# Altium footprint library Button_Switch_SMD.PcbLib: 169 footprints (part 3 of 12)
Each footprint in its own frame and in the unit in brackets; x right, y up, seen from the top. Pads: shape width x height; smd on the part's side, far side on the other; paste and mask are expansions set on the pad; w line width, h text height; cw(c..) or ccw(c..) is an arc to the next point about the centre after c.
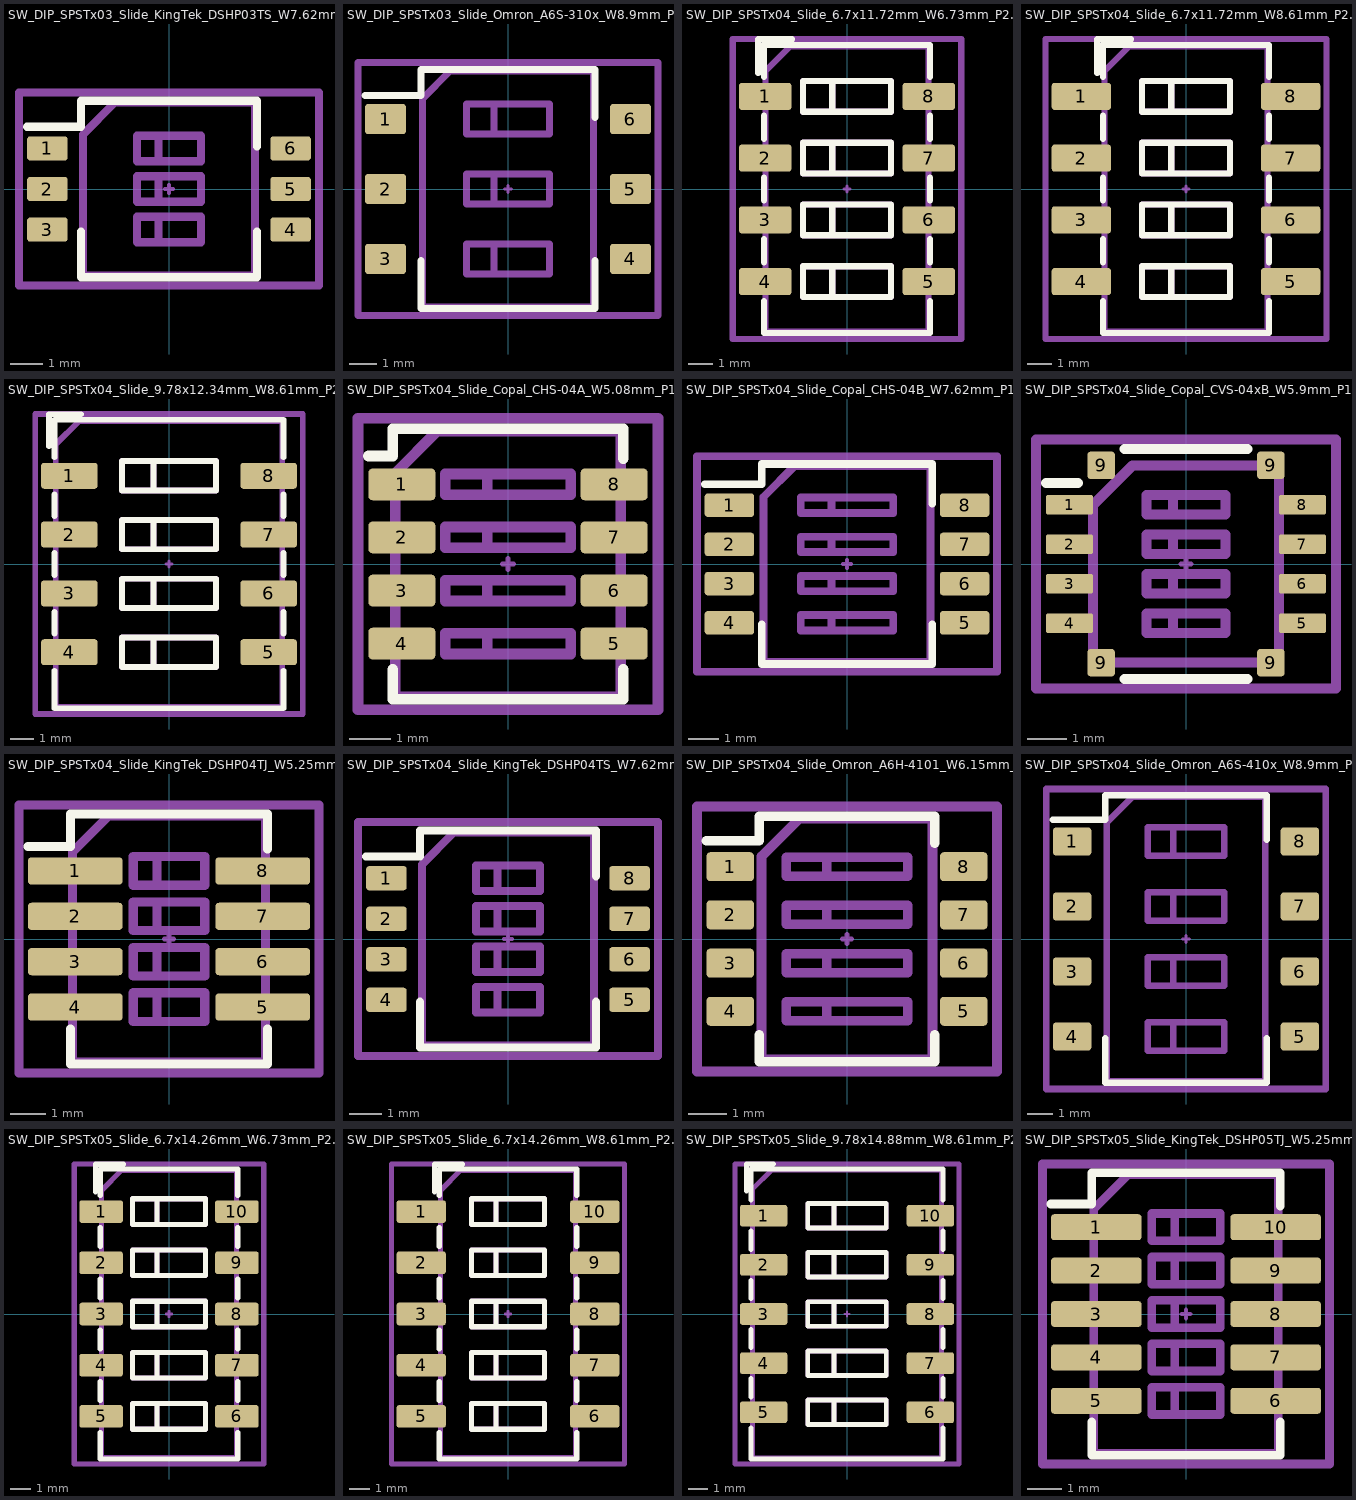
[diagram p2: the footprints below, top view; thin cyan lines are the x and y axes]

## SW_DIP_SPSTx03_Slide_KingTek_DSHP03TS_W7.62mm_P1.27mm [mm] "SW_DIP_SPSTx03_Slide_KingTek_DSHP03TS_W7.62mm_P1.27mm"
pads (6):
  rrect25% 1.27x0.76 smd: 1(-3.81,1.27) 2(-3.81,0) 3(-3.81,-1.27) 4(3.81,-1.27) 5(3.81,0) 6(3.81,1.27)
F.SilkS:
  lines w0.254: -4.445,1.95 -2.76,1.95 -2.76,2.765 2.76,2.765 2.76,1.33 ; -2.76,-1.33 -2.76,-2.765 2.76,-2.765 2.76,-1.33
Top Component Center:
  lines w0.127: -0.127,0 0.127,0 ; 0,-0.127 0,0.127
Top Assembly:
  lines w0.254: -1,-1.67 -1,-0.87 ; -1,-1.67 -0.333,-1.67 ; -1,-1.67 -1,-0.87 ; -1,-1.67 1,-1.67 1,-0.87 -1,-0.87 ; -1,-0.87 -0.333,-0.87 ; -1,-0.4 -1,0.4 ; -1,-0.4 -0.333,-0.4 ; -1,-0.4 -1,0.4 ; -1,-0.4 1,-0.4 1,0.4 -1,0.4 ; -1,0.4 -0.333,0.4 ; -1,0.87 -1,1.67 ; -1,0.87 -0.333,0.87 ; -1,0.87 -1,1.67 ; -1,0.87 1,0.87 1,1.67 -1,1.67 ; -1,1.67 -0.333,1.67 ; -0.333,-1.67 -0.333,-0.87 ; -0.333,-1.67 -0.333,-0.87 ; -0.333,-0.4 -0.333,0.4 ; -0.333,-0.4 -0.333,0.4 ; -0.333,0.87 -0.333,1.67 ; -0.333,0.87 -0.333,1.67 ; -2.7,-2.705 -2.7,1.705 -1.7,2.705 2.7,2.705 2.7,-2.705 -2.7,-2.705
  text "on" at -0.72,1.801 h0.8
Top Courtyard:
  lines w0.254: -4.7,-3.02 -4.7,3.02 4.7,3.02 4.7,-3.02 -4.7,-3.02
Top Designator:
  text ".Designator" at -3.432,-0.345 h1.52
3D body "SW_DIP_SPSTx03_Slide_KingTek_DSHP03TS_W7.62mm_P1.27mm.step": height 2.45, standoff 0.08, extent -4.175,-2.705 4.175,2.705

## SW_DIP_SPSTx03_Slide_Omron_A6S-310x_W8.9mm_P2.54mm [mm] "SW_DIP_SPSTx03_Slide_Omron_A6S-310x_W8.9mm_P2.54mm"
pads (6):
  rrect23% 1.5x1.1 smd: 1(-4.45,2.54) 2(-4.45,0) 3(-4.45,-2.54) 4(4.45,-2.54) 5(4.45,0) 6(4.45,2.54)
F.SilkS:
  lines w0.254: -5.2,3.39 -3.16,3.39 -3.16,4.34 3.16,4.34 3.16,2.6 ; -3.16,-2.6 -3.16,-4.34 3.16,-4.34 3.16,-2.6
Top Component Center:
  lines w0.127: -0.127,0 0.127,0 ; 0,-0.127 0,0.127
Top Assembly:
  lines w0.254: -1.5,-3.09 -1.5,-1.99 ; -1.5,-3.09 -0.5,-3.09 ; -1.5,-3.09 -1.5,-1.99 ; -1.5,-3.09 1.5,-3.09 1.5,-1.99 -1.5,-1.99 ; -1.5,-1.99 -0.5,-1.99 ; -1.5,-0.55 -1.5,0.55 ; -1.5,-0.55 -0.5,-0.55 ; -1.5,-0.55 -1.5,0.55 ; -1.5,-0.55 1.5,-0.55 1.5,0.55 -1.5,0.55 ; -1.5,0.55 -0.5,0.55 ; -1.5,1.99 -1.5,3.09 ; -1.5,1.99 -0.5,1.99 ; -1.5,1.99 -1.5,3.09 ; -1.5,1.99 1.5,1.99 1.5,3.09 -1.5,3.09 ; -1.5,3.09 -0.5,3.09 ; -0.5,-3.09 -0.5,-1.99 ; -0.5,-3.09 -0.5,-1.99 ; -0.5,-0.55 -0.5,0.55 ; -0.5,-0.55 -0.5,0.55 ; -0.5,1.99 -0.5,3.09 ; -0.5,1.99 -0.5,3.09 ; -3.1,-4.28 -3.1,3.28 -2.1,4.28 3.1,4.28 3.1,-4.28 -3.1,-4.28
  text "on" at -0.59,3.298 h0.8
Top Courtyard:
  lines w0.254: -5.45,-4.59 -5.45,4.59 5.45,4.59 5.45,-4.59 -5.45,-4.59
Top Designator:
  text ".Designator" at -3.432,-0.345 h1.52
3D body "SW_DIP_SPSTx03_Slide_Omron_A6S-310x_W8.9mm_P2.54mm.step": height 3.1, standoff 0.03, extent -4.9,-4.28 4.9,4.28

## SW_DIP_SPSTx04_Slide_6.7x11.72mm_W6.73mm_P2.54mm_LowProfile_JPin [mm] "SW_DIP_SPSTx04_Slide_6.7x11.72mm_W6.73mm_P2.54mm_LowProfile_JPin"
pads (8):
  rrect22% 2.16x1.12 smd: 1(-3.365,3.81) 2(-3.365,1.27) 3(-3.365,-1.27) 4(-3.365,-3.81) 5(3.365,-3.81) 6(3.365,-1.27) 7(3.365,1.27) 8(3.365,3.81)
F.SilkS:
  lines w0.254: -3.65,4.777 -3.65,6.16 -2.267,6.16 ; -3.41,-4.61 -3.41,-5.92 3.41,-5.92 3.41,-4.61 ; -3.41,-3.01 -3.41,-2.07 ; -3.41,-0.47 -3.41,0.47 ; -3.41,2.07 -3.41,3.01 ; -3.41,4.61 -3.41,5.92 3.41,5.92 3.41,4.61 ; 3.41,-3.01 3.41,-2.07 ; 3.41,-0.47 3.41,0.47 ; 3.41,2.07 3.41,3.01 ; -1.81,-4.445 1.81,-4.445 1.81,-3.175 -1.81,-3.175 ; -1.81,-4.445 -1.81,-3.175 ; -1.81,-4.445 -0.603,-4.445 ; -1.81,-4.445 -1.81,-3.175 ; -1.81,-3.175 -0.603,-3.175 ; -1.81,-1.905 1.81,-1.905 1.81,-0.635 -1.81,-0.635 ; -1.81,-1.905 -1.81,-0.635 ; -1.81,-1.905 -0.603,-1.905 ; -1.81,-1.905 -1.81,-0.635 ; -1.81,-0.635 -0.603,-0.635 ; -1.81,0.635 1.81,0.635 1.81,1.905 -1.81,1.905 ; -1.81,0.635 -1.81,1.905 ; -1.81,0.635 -0.603,0.635 ; -1.81,0.635 -1.81,1.905 ; -1.81,1.905 -0.603,1.905 ; -1.81,3.175 1.81,3.175 1.81,4.445 -1.81,4.445 ; -1.81,3.175 -1.81,4.445 ; -1.81,3.175 -0.603,3.175 ; -1.81,3.175 -1.81,4.445 ; -1.81,4.445 -0.603,4.445 ; -0.603,-4.445 -0.603,-3.175 ; -0.603,-4.445 -0.603,-3.175 ; -0.603,-1.905 -0.603,-0.635 ; -0.603,-1.905 -0.603,-0.635 ; -0.603,0.635 -0.603,1.905 ; -0.603,0.635 -0.603,1.905 ; -0.603,3.175 -0.603,4.445 ; -0.603,3.175 -0.603,4.445
Top Component Center:
  lines w0.127: -0.127,0 0.127,0 ; 0,-0.127 0,0.127
Top Assembly:
  lines w0.254: -1.81,-4.445 1.81,-4.445 1.81,-3.175 -1.81,-3.175 ; -1.81,-4.445 -1.81,-3.175 ; -1.81,-4.445 -0.603,-4.445 ; -1.81,-4.445 -1.81,-3.175 ; -1.81,-3.175 -0.603,-3.175 ; -1.81,-1.905 1.81,-1.905 1.81,-0.635 -1.81,-0.635 ; -1.81,-1.905 -1.81,-0.635 ; -1.81,-1.905 -0.603,-1.905 ; -1.81,-1.905 -1.81,-0.635 ; -1.81,-0.635 -0.603,-0.635 ; -1.81,0.635 1.81,0.635 1.81,1.905 -1.81,1.905 ; -1.81,0.635 -1.81,1.905 ; -1.81,0.635 -0.603,0.635 ; -1.81,0.635 -1.81,1.905 ; -1.81,1.905 -0.603,1.905 ; -1.81,3.175 1.81,3.175 1.81,4.445 -1.81,4.445 ; -1.81,3.175 -1.81,4.445 ; -1.81,3.175 -0.603,3.175 ; -1.81,3.175 -1.81,4.445 ; -1.81,4.445 -0.603,4.445 ; -0.603,-4.445 -0.603,-3.175 ; -0.603,-4.445 -0.603,-3.175 ; -0.603,-1.905 -0.603,-0.635 ; -0.603,-1.905 -0.603,-0.635 ; -0.603,0.635 -0.603,1.905 ; -0.603,0.635 -0.603,1.905 ; -0.603,3.175 -0.603,4.445 ; -0.603,3.175 -0.603,4.445 ; -3.35,-5.86 3.35,-5.86 3.35,5.86 -2.35,5.86 -3.35,4.86 -3.35,-5.86
  text "on" at 0.233,4.766 h0.8
Top Courtyard:
  lines w0.254: -4.7,-6.17 4.7,-6.17 4.7,6.17 -4.7,6.17 -4.7,-6.17
Top Designator:
  text ".Designator" at -3.432,-0.345 h1.52
3D body "SW_DIP_SPSTx04_Slide_6.7x11.72mm_W6.73mm_P2.54mm_LowProfile_JPin.step": height 3.2, standoff -0.1, extent -3.45,-5.86 3.45,5.86

## SW_DIP_SPSTx04_Slide_6.7x11.72mm_W8.61mm_P2.54mm_LowProfile [mm] "SW_DIP_SPSTx04_Slide_6.7x11.72mm_W8.61mm_P2.54mm_LowProfile"
pads (8):
  rrect22% 2.44x1.12 smd: 1(-4.305,3.81) 2(-4.305,1.27) 3(-4.305,-1.27) 4(-4.305,-3.81) 5(4.305,-3.81) 6(4.305,-1.27) 7(4.305,1.27) 8(4.305,3.81)
F.SilkS:
  lines w0.254: -3.65,4.777 -3.65,6.16 -2.267,6.16 ; -3.41,-4.61 -3.41,-5.92 3.41,-5.92 3.41,-4.61 ; -3.41,-3.01 -3.41,-2.07 ; -3.41,-0.47 -3.41,0.47 ; -3.41,2.07 -3.41,3.01 ; -3.41,4.61 -3.41,5.92 3.41,5.92 3.41,4.61 ; 3.41,-3.01 3.41,-2.07 ; 3.41,-0.47 3.41,0.47 ; 3.41,2.07 3.41,3.01 ; -1.81,-4.445 -1.81,-3.175 ; -1.81,-4.445 -0.603,-4.445 ; -1.81,-4.445 -1.81,-3.175 ; -1.81,-4.445 1.81,-4.445 1.81,-3.175 -1.81,-3.175 ; -1.81,-3.175 -0.603,-3.175 ; -1.81,-1.905 -1.81,-0.635 ; -1.81,-1.905 -0.603,-1.905 ; -1.81,-1.905 -1.81,-0.635 ; -1.81,-1.905 1.81,-1.905 1.81,-0.635 -1.81,-0.635 ; -1.81,-0.635 -0.603,-0.635 ; -1.81,0.635 -1.81,1.905 ; -1.81,0.635 -0.603,0.635 ; -1.81,0.635 -1.81,1.905 ; -1.81,0.635 1.81,0.635 1.81,1.905 -1.81,1.905 ; -1.81,1.905 -0.603,1.905 ; -1.81,3.175 -1.81,4.445 ; -1.81,3.175 -0.603,3.175 ; -1.81,3.175 -1.81,4.445 ; -1.81,3.175 1.81,3.175 1.81,4.445 -1.81,4.445 ; -1.81,4.445 -0.603,4.445 ; -0.603,-4.445 -0.603,-3.175 ; -0.603,-4.445 -0.603,-3.175 ; -0.603,-1.905 -0.603,-0.635 ; -0.603,-1.905 -0.603,-0.635 ; -0.603,0.635 -0.603,1.905 ; -0.603,0.635 -0.603,1.905 ; -0.603,3.175 -0.603,4.445 ; -0.603,3.175 -0.603,4.445
Top Component Center:
  lines w0.127: -0.127,0 0.127,0 ; 0,-0.127 0,0.127
Top Assembly:
  lines w0.254: -1.81,-4.445 -1.81,-3.175 ; -1.81,-4.445 -0.603,-4.445 ; -1.81,-4.445 -1.81,-3.175 ; -1.81,-4.445 1.81,-4.445 1.81,-3.175 -1.81,-3.175 ; -1.81,-3.175 -0.603,-3.175 ; -1.81,-1.905 -1.81,-0.635 ; -1.81,-1.905 -0.603,-1.905 ; -1.81,-1.905 -1.81,-0.635 ; -1.81,-1.905 1.81,-1.905 1.81,-0.635 -1.81,-0.635 ; -1.81,-0.635 -0.603,-0.635 ; -1.81,0.635 -1.81,1.905 ; -1.81,0.635 -0.603,0.635 ; -1.81,0.635 -1.81,1.905 ; -1.81,0.635 1.81,0.635 1.81,1.905 -1.81,1.905 ; -1.81,1.905 -0.603,1.905 ; -1.81,3.175 -1.81,4.445 ; -1.81,3.175 -0.603,3.175 ; -1.81,3.175 -1.81,4.445 ; -1.81,3.175 1.81,3.175 1.81,4.445 -1.81,4.445 ; -1.81,4.445 -0.603,4.445 ; -0.603,-4.445 -0.603,-3.175 ; -0.603,-4.445 -0.603,-3.175 ; -0.603,-1.905 -0.603,-0.635 ; -0.603,-1.905 -0.603,-0.635 ; -0.603,0.635 -0.603,1.905 ; -0.603,0.635 -0.603,1.905 ; -0.603,3.175 -0.603,4.445 ; -0.603,3.175 -0.603,4.445 ; -3.35,-5.86 -3.35,4.86 -2.35,5.86 3.35,5.86 3.35,-5.86 -3.35,-5.86
  text "on" at -0.237,4.766 h0.8
Top Courtyard:
  lines w0.254: -5.78,-6.17 -5.78,6.17 5.78,6.17 5.78,-6.17 -5.78,-6.17
Top Designator:
  text ".Designator" at -3.432,-0.345 h1.52
3D body "SW_DIP_SPSTx04_Slide_6.7x11.72mm_W8.61mm_P2.54mm_LowProfile.step": height 2.7, standoff 0, extent -4.305,-5.86 4.305,5.86

## SW_DIP_SPSTx04_Slide_9.78x12.34mm_W8.61mm_P2.54mm [mm] "SW_DIP_SPSTx04_Slide_9.78x12.34mm_W8.61mm_P2.54mm"
pads (8):
  rrect22% 2.44x1.12 smd: 1(-4.305,3.81) 2(-4.305,1.27) 3(-4.305,-1.27) 4(-4.305,-3.81) 5(4.305,-3.81) 6(4.305,-1.27) 7(4.305,1.27) 8(4.305,3.81)
F.SilkS:
  lines w0.254: -5.19,5.087 -5.19,6.47 -3.807,6.47 ; -4.95,-4.61 -4.95,-6.23 4.95,-6.23 4.95,-4.61 ; -4.95,-3.01 -4.95,-2.07 ; -4.95,-0.47 -4.95,0.47 ; -4.95,2.07 -4.95,3.01 ; -4.95,4.61 -4.95,6.23 4.95,6.23 4.95,4.61 ; 4.95,-3.01 4.95,-2.07 ; 4.95,-0.47 4.95,0.47 ; 4.95,2.07 4.95,3.01 ; -2.03,-4.445 2.03,-4.445 2.03,-3.175 -2.03,-3.175 ; -2.03,-4.445 -2.03,-3.175 ; -2.03,-4.445 -0.677,-4.445 ; -2.03,-4.445 -2.03,-3.175 ; -2.03,-3.175 -0.677,-3.175 ; -2.03,-1.905 2.03,-1.905 2.03,-0.635 -2.03,-0.635 ; -2.03,-1.905 -2.03,-0.635 ; -2.03,-1.905 -0.677,-1.905 ; -2.03,-1.905 -2.03,-0.635 ; -2.03,-0.635 -0.677,-0.635 ; -2.03,0.635 2.03,0.635 2.03,1.905 -2.03,1.905 ; -2.03,0.635 -2.03,1.905 ; -2.03,0.635 -0.677,0.635 ; -2.03,0.635 -2.03,1.905 ; -2.03,1.905 -0.677,1.905 ; -2.03,3.175 2.03,3.175 2.03,4.445 -2.03,4.445 ; -2.03,3.175 -2.03,4.445 ; -2.03,3.175 -0.677,3.175 ; -2.03,3.175 -2.03,4.445 ; -2.03,4.445 -0.677,4.445 ; -0.677,-4.445 -0.677,-3.175 ; -0.677,-4.445 -0.677,-3.175 ; -0.677,-1.905 -0.677,-0.635 ; -0.677,-1.905 -0.677,-0.635 ; -0.677,0.635 -0.677,1.905 ; -0.677,0.635 -0.677,1.905 ; -0.677,3.175 -0.677,4.445 ; -0.677,3.175 -0.677,4.445
Top Component Center:
  lines w0.127: -0.127,0 0.127,0 ; 0,-0.127 0,0.127
Top Assembly:
  lines w0.254: -2.03,-4.445 2.03,-4.445 2.03,-3.175 -2.03,-3.175 ; -2.03,-4.445 -2.03,-3.175 ; -2.03,-4.445 -0.677,-4.445 ; -2.03,-4.445 -2.03,-3.175 ; -2.03,-3.175 -0.677,-3.175 ; -2.03,-1.905 2.03,-1.905 2.03,-0.635 -2.03,-0.635 ; -2.03,-1.905 -2.03,-0.635 ; -2.03,-1.905 -0.677,-1.905 ; -2.03,-1.905 -2.03,-0.635 ; -2.03,-0.635 -0.677,-0.635 ; -2.03,0.635 2.03,0.635 2.03,1.905 -2.03,1.905 ; -2.03,0.635 -2.03,1.905 ; -2.03,0.635 -0.677,0.635 ; -2.03,0.635 -2.03,1.905 ; -2.03,1.905 -0.677,1.905 ; -2.03,3.175 2.03,3.175 2.03,4.445 -2.03,4.445 ; -2.03,3.175 -2.03,4.445 ; -2.03,3.175 -0.677,3.175 ; -2.03,3.175 -2.03,4.445 ; -2.03,4.445 -0.677,4.445 ; -0.677,-4.445 -0.677,-3.175 ; -0.677,-4.445 -0.677,-3.175 ; -0.677,-1.905 -0.677,-0.635 ; -0.677,-1.905 -0.677,-0.635 ; -0.677,0.635 -0.677,1.905 ; -0.677,0.635 -0.677,1.905 ; -0.677,3.175 -0.677,4.445 ; -0.677,3.175 -0.677,4.445 ; -4.89,-6.17 4.89,-6.17 4.89,6.17 -3.89,6.17 -4.89,5.17 -4.89,-6.17
  text "on" at 0.643,4.921 h0.8
Top Courtyard:
  lines w0.254: -5.78,-6.48 5.78,-6.48 5.78,6.48 -5.78,6.48 -5.78,-6.48
Top Designator:
  text ".Designator" at -3.432,-0.345 h1.52
3D body "SW_DIP_SPSTx04_Slide_9.78x12.34mm_W8.61mm_P2.54mm.step": height 8.6, standoff 0, extent -5.2,-6.17 5.2,6.17

## SW_DIP_SPSTx04_Slide_Copal_CHS-04A_W5.08mm_P1.27mm_JPin [mm] "SW_DIP_SPSTx04_Slide_Copal_CHS-04A_W5.08mm_P1.27mm_JPin"
pads (8):
  rrect25% 1.6x0.76 smd: 1(-2.54,1.905) 2(-2.54,0.635) 3(-2.54,-0.635) 4(-2.54,-1.905) 5(2.54,-1.905) 6(2.54,-0.635) 7(2.54,0.635) 8(2.54,1.905)
F.SilkS:
  lines w0.254: -3.34,2.585 -2.76,2.585 -2.76,3.235 2.76,3.235 2.76,2.525 ; -2.76,-2.525 -2.76,-3.235 2.76,-3.235 2.76,-2.525
Top Component Center:
  lines w0.127: -0.127,0 0.127,0 ; 0,-0.127 0,0.127
Top Assembly:
  lines w0.254: -1.5,-2.155 1.5,-2.155 1.5,-1.655 -1.5,-1.655 ; -1.5,-2.155 -1.5,-1.655 ; -1.5,-2.155 -0.5,-2.155 ; -1.5,-2.155 -1.5,-1.655 ; -1.5,-1.655 -0.5,-1.655 ; -1.5,-0.885 1.5,-0.885 1.5,-0.385 -1.5,-0.385 ; -1.5,-0.885 -1.5,-0.385 ; -1.5,-0.885 -0.5,-0.885 ; -1.5,-0.885 -1.5,-0.385 ; -1.5,-0.385 -0.5,-0.385 ; -1.5,0.385 1.5,0.385 1.5,0.885 -1.5,0.885 ; -1.5,0.385 -1.5,0.885 ; -1.5,0.385 -0.5,0.385 ; -1.5,0.385 -1.5,0.885 ; -1.5,0.885 -0.5,0.885 ; -1.5,1.655 1.5,1.655 1.5,2.155 -1.5,2.155 ; -1.5,1.655 -1.5,2.155 ; -1.5,1.655 -0.5,1.655 ; -1.5,1.655 -1.5,2.155 ; -1.5,2.155 -0.5,2.155 ; -0.5,-2.155 -0.5,-1.655 ; -0.5,-2.155 -0.5,-1.655 ; -0.5,-0.885 -0.5,-0.385 ; -0.5,-0.885 -0.5,-0.385 ; -0.5,0.385 -0.5,0.885 ; -0.5,0.385 -0.5,0.885 ; -0.5,1.655 -0.5,2.155 ; -0.5,1.655 -0.5,2.155 ; -2.7,-3.175 2.7,-3.175 2.7,3.175 -1.7,3.175 -2.7,2.175 -2.7,-3.175
  text "on" at 0.165,2.278 h0.8
Top Courtyard:
  lines w0.254: -3.59,-3.49 3.59,-3.49 3.59,3.49 -3.59,3.49 -3.59,-3.49
Top Designator:
  text ".Designator" at -3.432,-0.345 h1.52
3D body "SW_DIP_SPSTx04_Slide_Copal_CHS-04A_W5.08mm_P1.27mm_JPin.step": height 2.65, standoff 0, extent -3.155,-2.8 3.155,2.8

## SW_DIP_SPSTx04_Slide_Copal_CHS-04B_W7.62mm_P1.27mm [mm] "SW_DIP_SPSTx04_Slide_Copal_CHS-04B_W7.62mm_P1.27mm"
pads (8):
  rrect25% 1.6x0.76 smd: 1(-3.81,1.905) 2(-3.81,0.635) 3(-3.81,-0.635) 4(-3.81,-1.905) 5(3.81,-1.905) 6(3.81,-0.635) 7(3.81,0.635) 8(3.81,1.905)
F.SilkS:
  lines w0.254: -4.61,2.585 -2.76,2.585 -2.76,3.235 2.76,3.235 2.76,1.965 ; -2.76,-1.965 -2.76,-3.235 2.76,-3.235 2.76,-1.965
Top Component Center:
  lines w0.127: -0.127,0 0.127,0 ; 0,-0.127 0,0.127
Top Assembly:
  lines w0.254: -1.5,-2.155 -1.5,-1.655 ; -1.5,-2.155 -0.5,-2.155 ; -1.5,-2.155 -1.5,-1.655 ; -1.5,-2.155 1.5,-2.155 1.5,-1.655 -1.5,-1.655 ; -1.5,-1.655 -0.5,-1.655 ; -1.5,-0.885 -1.5,-0.385 ; -1.5,-0.885 -0.5,-0.885 ; -1.5,-0.885 -1.5,-0.385 ; -1.5,-0.885 1.5,-0.885 1.5,-0.385 -1.5,-0.385 ; -1.5,-0.385 -0.5,-0.385 ; -1.5,0.385 -1.5,0.885 ; -1.5,0.385 -0.5,0.385 ; -1.5,0.385 -1.5,0.885 ; -1.5,0.385 1.5,0.385 1.5,0.885 -1.5,0.885 ; -1.5,0.885 -0.5,0.885 ; -1.5,1.655 -1.5,2.155 ; -1.5,1.655 -0.5,1.655 ; -1.5,1.655 -1.5,2.155 ; -1.5,1.655 1.5,1.655 1.5,2.155 -1.5,2.155 ; -1.5,2.155 -0.5,2.155 ; -0.5,-2.155 -0.5,-1.655 ; -0.5,-2.155 -0.5,-1.655 ; -0.5,-0.885 -0.5,-0.385 ; -0.5,-0.885 -0.5,-0.385 ; -0.5,0.385 -0.5,0.885 ; -0.5,0.385 -0.5,0.885 ; -0.5,1.655 -0.5,2.155 ; -0.5,1.655 -0.5,2.155 ; -2.7,-3.175 -2.7,2.175 -1.7,3.175 2.7,3.175 2.7,-3.175 -2.7,-3.175
  text "on" at -0.47,2.278 h0.8
Top Courtyard:
  lines w0.254: -4.86,-3.49 -4.86,3.49 4.86,3.49 4.86,-3.49 -4.86,-3.49
Top Designator:
  text ".Designator" at -3.432,-0.345 h1.52
3D body "SW_DIP_SPSTx04_Slide_Copal_CHS-04B_W7.62mm_P1.27mm.step": height 2.6, standoff 0.03, extent -4,-3.155 4,3.155

## SW_DIP_SPSTx04_Slide_Copal_CVS-04xB_W5.9mm_P1mm [mm] "SW_DIP_SPSTx04_Slide_Copal_CVS-04xB_W5.9mm_P1mm"
pads (12):
  rrect25% 1.2x0.5 smd: 1(-2.95,1.5) 2(-2.95,0.5) 3(-2.95,-0.5) 4(-2.95,-1.5) 5(2.95,-1.5) 6(2.95,-0.5) 7(2.95,0.5) 8(2.95,1.5)
  rrect25% 0.7x0.7 smd: 9(-2.15,-2.5) 9(-2.15,2.5) 9(2.15,-2.5) 9(2.15,2.5)
F.SilkS:
  lines w0.254: -3.55,2.05 -2.74,2.05 ; -1.56,-2.91 1.56,-2.91 ; -1.56,2.91 1.56,2.91
Top Component Center:
  lines w0.127: -0.127,0 0.127,0 ; 0,-0.127 0,0.127
Top Assembly:
  lines w0.254: -1,-1.75 -1,-1.25 ; -1,-1.75 -0.333,-1.75 ; -1,-1.75 -1,-1.25 ; -1,-1.75 1,-1.75 1,-1.25 -1,-1.25 ; -1,-1.25 -0.333,-1.25 ; -1,-0.75 -1,-0.25 ; -1,-0.75 -0.333,-0.75 ; -1,-0.75 -1,-0.25 ; -1,-0.75 1,-0.75 1,-0.25 -1,-0.25 ; -1,-0.25 -0.333,-0.25 ; -1,0.25 -1,0.75 ; -1,0.25 -0.333,0.25 ; -1,0.25 -1,0.75 ; -1,0.25 1,0.25 1,0.75 -1,0.75 ; -1,0.75 -0.333,0.75 ; -1,1.25 -1,1.75 ; -1,1.25 -0.333,1.25 ; -1,1.25 -1,1.75 ; -1,1.25 1,1.25 1,1.75 -1,1.75 ; -1,1.75 -0.333,1.75 ; -0.333,-1.75 -0.333,-1.25 ; -0.333,-1.75 -0.333,-1.25 ; -0.333,-0.75 -0.333,-0.25 ; -0.333,-0.75 -0.333,-0.25 ; -0.333,0.25 -0.333,0.75 ; -0.333,0.25 -0.333,0.75 ; -0.333,1.25 -0.333,1.75 ; -0.333,1.25 -0.333,1.75 ; -2.35,-2.5 -2.35,1.5 -1.35,2.5 2.35,2.5 2.35,-2.5 -2.35,-2.5
  text "on" at -0.465,1.738 h0.8
Top Courtyard:
  lines w0.254: -3.8,-3.16 -3.8,3.16 3.8,3.16 3.8,-3.16 -3.8,-3.16
Top Designator:
  text ".Designator" at -3.432,-0.345 h1.52
3D body "SW_DIP_SPSTx04_Slide_Copal_CVS-04xB_W5.9mm_P1mm.step": height 1.58, standoff 0.08, extent -3.05,-2.5 3.05,2.5

## SW_DIP_SPSTx04_Slide_KingTek_DSHP04TJ_W5.25mm_P1.27mm_JPin [mm] "SW_DIP_SPSTx04_Slide_KingTek_DSHP04TJ_W5.25mm_P1.27mm_JPin"
pads (8):
  rrect25% 2.65x0.76 smd: 1(-2.625,1.905) 2(-2.625,0.635) 3(-2.625,-0.635) 4(-2.625,-1.905) 5(2.625,-1.905) 6(2.625,-0.635) 7(2.625,0.635) 8(2.625,1.905)
F.SilkS:
  lines w0.254: -3.95,2.585 -2.76,2.585 -2.76,3.5 2.76,3.5 2.76,2.525 ; -2.76,-2.525 -2.76,-3.5 2.76,-3.5 2.76,-2.525
Top Component Center:
  lines w0.127: -0.127,0 0.127,0 ; 0,-0.127 0,0.127
Top Assembly:
  lines w0.254: -1,-2.305 -1,-1.505 ; -1,-2.305 -0.333,-2.305 ; -1,-2.305 -1,-1.505 ; -1,-2.305 1,-2.305 1,-1.505 -1,-1.505 ; -1,-1.505 -0.333,-1.505 ; -1,-1.035 -1,-0.235 ; -1,-1.035 -0.333,-1.035 ; -1,-1.035 -1,-0.235 ; -1,-1.035 1,-1.035 1,-0.235 -1,-0.235 ; -1,-0.235 -0.333,-0.235 ; -1,0.235 -1,1.035 ; -1,0.235 -0.333,0.235 ; -1,0.235 -1,1.035 ; -1,0.235 1,0.235 1,1.035 -1,1.035 ; -1,1.035 -0.333,1.035 ; -1,1.505 -1,2.305 ; -1,1.505 -0.333,1.505 ; -1,1.505 -1,2.305 ; -1,1.505 1,1.505 1,2.305 -1,2.305 ; -1,2.305 -0.333,2.305 ; -0.333,-2.305 -0.333,-1.505 ; -0.333,-2.305 -0.333,-1.505 ; -0.333,-1.035 -0.333,-0.235 ; -0.333,-1.035 -0.333,-0.235 ; -0.333,0.235 -0.333,1.035 ; -0.333,0.235 -0.333,1.035 ; -0.333,1.505 -0.333,2.305 ; -0.333,1.505 -0.333,2.305 ; -2.7,-3.44 -2.7,2.44 -1.7,3.44 2.7,3.44 2.7,-3.44 -2.7,-3.44
  text "on" at -0.127,2.486 h0.8
Top Courtyard:
  lines w0.254: -4.2,-3.75 -4.2,3.75 4.2,3.75 4.2,-3.75 -4.2,-3.75
Top Designator:
  text ".Designator" at -0.345,3.432 h1.52
3D body "SW_DIP_SPSTx04_Slide_KingTek_DSHP04TJ_W5.25mm_P1.27mm_JPin.step": height 2.4, standoff -0.05, extent -2.8,-3.34 2.8,3.34

## SW_DIP_SPSTx04_Slide_KingTek_DSHP04TS_W7.62mm_P1.27mm [mm] "SW_DIP_SPSTx04_Slide_KingTek_DSHP04TS_W7.62mm_P1.27mm"
pads (8):
  rrect25% 1.27x0.76 smd: 1(-3.81,1.905) 2(-3.81,0.635) 3(-3.81,-0.635) 4(-3.81,-1.905) 5(3.81,-1.905) 6(3.81,-0.635) 7(3.81,0.635) 8(3.81,1.905)
F.SilkS:
  lines w0.254: -4.445,2.585 -2.76,2.585 -2.76,3.4 2.76,3.4 2.76,1.965 ; -2.76,-1.965 -2.76,-3.4 2.76,-3.4 2.76,-1.965
Top Component Center:
  lines w0.127: -0.127,0 0.127,0 ; 0,-0.127 0,0.127
Top Assembly:
  lines w0.254: -1,-2.305 -1,-1.505 ; -1,-2.305 -0.333,-2.305 ; -1,-2.305 -1,-1.505 ; -1,-2.305 1,-2.305 1,-1.505 -1,-1.505 ; -1,-1.505 -0.333,-1.505 ; -1,-1.035 -1,-0.235 ; -1,-1.035 -0.333,-1.035 ; -1,-1.035 -1,-0.235 ; -1,-1.035 1,-1.035 1,-0.235 -1,-0.235 ; -1,-0.235 -0.333,-0.235 ; -1,0.235 -1,1.035 ; -1,0.235 -0.333,0.235 ; -1,0.235 -1,1.035 ; -1,0.235 1,0.235 1,1.035 -1,1.035 ; -1,1.035 -0.333,1.035 ; -1,1.505 -1,2.305 ; -1,1.505 -0.333,1.505 ; -1,1.505 -1,2.305 ; -1,1.505 1,1.505 1,2.305 -1,2.305 ; -1,2.305 -0.333,2.305 ; -0.333,-2.305 -0.333,-1.505 ; -0.333,-2.305 -0.333,-1.505 ; -0.333,-1.035 -0.333,-0.235 ; -0.333,-1.035 -0.333,-0.235 ; -0.333,0.235 -0.333,1.035 ; -0.333,0.235 -0.333,1.035 ; -0.333,1.505 -0.333,2.305 ; -0.333,1.505 -0.333,2.305 ; -2.7,-3.34 -2.7,2.34 -1.7,3.34 2.7,3.34 2.7,-3.34 -2.7,-3.34
  text "on" at -0.72,2.436 h0.8
Top Courtyard:
  lines w0.254: -4.7,-3.66 -4.7,3.66 4.7,3.66 4.7,-3.66 -4.7,-3.66
Top Designator:
  text ".Designator" at -3.432,-0.345 h1.52
3D body "SW_DIP_SPSTx04_Slide_KingTek_DSHP04TS_W7.62mm_P1.27mm.step": height 2.45, standoff 0.08, extent -4.175,-3.34 4.175,3.34

## SW_DIP_SPSTx04_Slide_Omron_A6H-4101_W6.15mm_P1.27mm [mm] "SW_DIP_SPSTx04_Slide_Omron_A6H-4101_W6.15mm_P1.27mm"
pads (8):
  rrect25% 1.25x0.76 smd: 1(-3.075,1.905) 2(-3.075,0.635) 3(-3.075,-0.635) 4(-3.075,-1.905) 5(3.075,-1.905) 6(3.075,-0.635) 7(3.075,0.635) 8(3.075,1.905)
F.SilkS:
  lines w0.254: -3.7,2.585 -2.31,2.585 -2.31,3.235 2.31,3.235 2.31,2.525 ; -2.31,-2.525 -2.31,-3.235 2.31,-3.235 2.31,-2.525
Top Component Center:
  lines w0.127: -0.127,0 0.127,0 ; 0,-0.127 0,0.127
Top Assembly:
  lines w0.254: -1.6,-2.155 1.6,-2.155 1.6,-1.655 -1.6,-1.655 ; -1.6,-2.155 -1.6,-1.655 ; -1.6,-2.155 -0.533,-2.155 ; -1.6,-2.155 -1.6,-1.655 ; -1.6,-1.655 -0.533,-1.655 ; -1.6,-0.885 1.6,-0.885 1.6,-0.385 -1.6,-0.385 ; -1.6,-0.885 -1.6,-0.385 ; -1.6,-0.885 -0.533,-0.885 ; -1.6,-0.885 -1.6,-0.385 ; -1.6,-0.385 -0.533,-0.385 ; -1.6,0.385 1.6,0.385 1.6,0.885 -1.6,0.885 ; -1.6,0.385 -1.6,0.885 ; -1.6,0.385 -0.533,0.385 ; -1.6,0.385 -1.6,0.885 ; -1.6,0.885 -0.533,0.885 ; -1.6,1.655 1.6,1.655 1.6,2.155 -1.6,2.155 ; -1.6,1.655 -1.6,2.155 ; -1.6,1.655 -0.533,1.655 ; -1.6,1.655 -1.6,2.155 ; -1.6,2.155 -0.533,2.155 ; -0.533,-2.155 -0.533,-1.655 ; -0.533,-2.155 -0.533,-1.655 ; -0.533,-0.885 -0.533,-0.385 ; -0.533,-0.885 -0.533,-0.385 ; -0.533,0.385 -0.533,0.885 ; -0.533,0.385 -0.533,0.885 ; -0.533,1.655 -0.533,2.155 ; -0.533,1.655 -0.533,2.155 ; -2.25,-3.175 2.25,-3.175 2.25,3.175 -1.25,3.175 -2.25,2.175 -2.25,-3.175
  text "on" at 0.009,2.445 h0.46
Top Courtyard:
  lines w0.254: -3.95,-3.49 3.95,-3.49 3.95,3.49 -3.95,3.49 -3.95,-3.49
Top Designator:
  text ".Designator" at -3.432,-0.345 h1.52
3D body "SW_DIP_SPSTx04_Slide_Omron_A6H-4101_W6.15mm_P1.27mm.step": height 1.55, standoff 0.03, extent -3.35,-3.155 3.35,3.155

## SW_DIP_SPSTx04_Slide_Omron_A6S-410x_W8.9mm_P2.54mm [mm] "SW_DIP_SPSTx04_Slide_Omron_A6S-410x_W8.9mm_P2.54mm"
pads (8):
  rrect23% 1.5x1.1 smd: 1(-4.45,3.81) 2(-4.45,1.27) 3(-4.45,-1.27) 4(-4.45,-3.81) 5(4.45,-3.81) 6(4.45,-1.27) 7(4.45,1.27) 8(4.45,3.81)
F.SilkS:
  lines w0.254: -5.2,4.66 -3.16,4.66 -3.16,5.61 3.16,5.61 3.16,3.87 ; -3.16,-3.87 -3.16,-5.61 3.16,-5.61 3.16,-3.87
Top Component Center:
  lines w0.127: -0.127,0 0.127,0 ; 0,-0.127 0,0.127
Top Assembly:
  lines w0.254: -1.5,-4.36 -1.5,-3.26 ; -1.5,-4.36 -0.5,-4.36 ; -1.5,-4.36 -1.5,-3.26 ; -1.5,-4.36 1.5,-4.36 1.5,-3.26 -1.5,-3.26 ; -1.5,-3.26 -0.5,-3.26 ; -1.5,-1.82 -1.5,-0.72 ; -1.5,-1.82 -0.5,-1.82 ; -1.5,-1.82 -1.5,-0.72 ; -1.5,-1.82 1.5,-1.82 1.5,-0.72 -1.5,-0.72 ; -1.5,-0.72 -0.5,-0.72 ; -1.5,0.72 -1.5,1.82 ; -1.5,0.72 -0.5,0.72 ; -1.5,0.72 -1.5,1.82 ; -1.5,0.72 1.5,0.72 1.5,1.82 -1.5,1.82 ; -1.5,1.82 -0.5,1.82 ; -1.5,3.26 -1.5,4.36 ; -1.5,3.26 -0.5,3.26 ; -1.5,3.26 -1.5,4.36 ; -1.5,3.26 1.5,3.26 1.5,4.36 -1.5,4.36 ; -1.5,4.36 -0.5,4.36 ; -0.5,-4.36 -0.5,-3.26 ; -0.5,-4.36 -0.5,-3.26 ; -0.5,-1.82 -0.5,-0.72 ; -0.5,-1.82 -0.5,-0.72 ; -0.5,0.72 -0.5,1.82 ; -0.5,0.72 -0.5,1.82 ; -0.5,3.26 -0.5,4.36 ; -0.5,3.26 -0.5,4.36 ; -3.1,-5.55 -3.1,4.55 -2.1,5.55 3.1,5.55 3.1,-5.55 -3.1,-5.55
  text "on" at -0.59,4.568 h0.8
Top Courtyard:
  lines w0.254: -5.45,-5.86 -5.45,5.86 5.45,5.86 5.45,-5.86 -5.45,-5.86
Top Designator:
  text ".Designator" at -3.432,-0.345 h1.52
3D body "SW_DIP_SPSTx04_Slide_Omron_A6S-410x_W8.9mm_P2.54mm.step": height 3.1, standoff 0.03, extent -4.9,-5.55 4.9,5.55

## SW_DIP_SPSTx05_Slide_6.7x14.26mm_W6.73mm_P2.54mm_LowProfile_JPin [mm] "SW_DIP_SPSTx05_Slide_6.7x14.26mm_W6.73mm_P2.54mm_LowProfile_JPin"
pads (10):
  rrect22% 2.16x1.12 smd: 1(-3.365,5.08) 2(-3.365,2.54) 3(-3.365,0) 4(-3.365,-2.54) 5(-3.365,-5.08) 6(3.365,-5.08) 7(3.365,-2.54) 8(3.365,0) 9(3.365,2.54) 10(3.365,5.08)
F.SilkS:
  lines w0.254: -3.65,6.047 -3.65,7.43 -2.267,7.43 ; -3.41,-5.88 -3.41,-7.19 3.41,-7.19 3.41,-5.88 ; -3.41,-4.28 -3.41,-3.34 ; -3.41,-1.74 -3.41,-0.8 ; -3.41,0.8 -3.41,1.74 ; -3.41,3.34 -3.41,4.28 ; -3.41,5.88 -3.41,7.19 3.41,7.19 3.41,5.88 ; 3.41,-4.28 3.41,-3.34 ; 3.41,-1.74 3.41,-0.8 ; 3.41,0.8 3.41,1.74 ; 3.41,3.34 3.41,4.28 ; -1.81,-5.715 -1.81,-4.445 ; -1.81,-5.715 -0.603,-5.715 ; -1.81,-5.715 -1.81,-4.445 ; -1.81,-5.715 1.81,-5.715 1.81,-4.445 -1.81,-4.445 ; -1.81,-4.445 -0.603,-4.445 ; -1.81,-3.175 -1.81,-1.905 ; -1.81,-3.175 -0.603,-3.175 ; -1.81,-3.175 -1.81,-1.905 ; -1.81,-3.175 1.81,-3.175 1.81,-1.905 -1.81,-1.905 ; -1.81,-1.905 -0.603,-1.905 ; -1.81,-0.635 -1.81,0.635 ; -1.81,-0.635 -0.603,-0.635 ; -1.81,-0.635 -1.81,0.635 ; -1.81,-0.635 1.81,-0.635 1.81,0.635 -1.81,0.635 ; -1.81,0.635 -0.603,0.635 ; -1.81,1.905 -1.81,3.175 ; -1.81,1.905 -0.603,1.905 ; -1.81,1.905 -1.81,3.175 ; -1.81,1.905 1.81,1.905 1.81,3.175 -1.81,3.175 ; -1.81,3.175 -0.603,3.175 ; -1.81,4.445 -1.81,5.715 ; -1.81,4.445 -0.603,4.445 ; -1.81,4.445 -1.81,5.715 ; -1.81,4.445 1.81,4.445 1.81,5.715 -1.81,5.715 ; -1.81,5.715 -0.603,5.715 ; -0.603,-5.715 -0.603,-4.445 ; -0.603,-5.715 -0.603,-4.445 ; -0.603,-3.175 -0.603,-1.905 ; -0.603,-3.175 -0.603,-1.905 ; -0.603,-0.635 -0.603,0.635 ; -0.603,-0.635 -0.603,0.635 ; -0.603,1.905 -0.603,3.175 ; -0.603,1.905 -0.603,3.175 ; -0.603,4.445 -0.603,5.715 ; -0.603,4.445 -0.603,5.715
Top Component Center:
  lines w0.127: -0.127,0 0.127,0 ; 0,-0.127 0,0.127
Top Assembly:
  lines w0.254: -1.81,-5.715 -1.81,-4.445 ; -1.81,-5.715 -0.603,-5.715 ; -1.81,-5.715 -1.81,-4.445 ; -1.81,-5.715 1.81,-5.715 1.81,-4.445 -1.81,-4.445 ; -1.81,-4.445 -0.603,-4.445 ; -1.81,-3.175 -1.81,-1.905 ; -1.81,-3.175 -0.603,-3.175 ; -1.81,-3.175 -1.81,-1.905 ; -1.81,-3.175 1.81,-3.175 1.81,-1.905 -1.81,-1.905 ; -1.81,-1.905 -0.603,-1.905 ; -1.81,-0.635 -1.81,0.635 ; -1.81,-0.635 -0.603,-0.635 ; -1.81,-0.635 -1.81,0.635 ; -1.81,-0.635 1.81,-0.635 1.81,0.635 -1.81,0.635 ; -1.81,0.635 -0.603,0.635 ; -1.81,1.905 -1.81,3.175 ; -1.81,1.905 -0.603,1.905 ; -1.81,1.905 -1.81,3.175 ; -1.81,1.905 1.81,1.905 1.81,3.175 -1.81,3.175 ; -1.81,3.175 -0.603,3.175 ; -1.81,4.445 -1.81,5.715 ; -1.81,4.445 -0.603,4.445 ; -1.81,4.445 -1.81,5.715 ; -1.81,4.445 1.81,4.445 1.81,5.715 -1.81,5.715 ; -1.81,5.715 -0.603,5.715 ; -0.603,-5.715 -0.603,-4.445 ; -0.603,-5.715 -0.603,-4.445 ; -0.603,-3.175 -0.603,-1.905 ; -0.603,-3.175 -0.603,-1.905 ; -0.603,-0.635 -0.603,0.635 ; -0.603,-0.635 -0.603,0.635 ; -0.603,1.905 -0.603,3.175 ; -0.603,1.905 -0.603,3.175 ; -0.603,4.445 -0.603,5.715 ; -0.603,4.445 -0.603,5.715 ; -3.35,-7.13 -3.35,6.13 -2.35,7.13 3.35,7.13 3.35,-7.13 -3.35,-7.13
  text "on" at 0.233,6.036 h0.8
Top Courtyard:
  lines w0.254: -4.7,-7.44 -4.7,7.44 4.7,7.44 4.7,-7.44 -4.7,-7.44
Top Designator:
  text ".Designator" at -3.559,0.798 h1.52
3D body "SW_DIP_SPSTx05_Slide_6.7x14.26mm_W6.73mm_P2.54mm_LowProfile_JPin.step": height 3.2, standoff -0.1, extent -3.45,-7.13 3.45,7.13

## SW_DIP_SPSTx05_Slide_6.7x14.26mm_W8.61mm_P2.54mm_LowProfile [mm] "SW_DIP_SPSTx05_Slide_6.7x14.26mm_W8.61mm_P2.54mm_LowProfile"
pads (10):
  rrect22% 2.44x1.12 smd: 1(-4.305,5.08) 2(-4.305,2.54) 3(-4.305,0) 4(-4.305,-2.54) 5(-4.305,-5.08) 6(4.305,-5.08) 7(4.305,-2.54) 8(4.305,0) 9(4.305,2.54) 10(4.305,5.08)
F.SilkS:
  lines w0.254: -3.65,6.047 -3.65,7.43 -2.267,7.43 ; -3.41,-5.88 -3.41,-7.19 3.41,-7.19 3.41,-5.88 ; -3.41,-4.28 -3.41,-3.34 ; -3.41,-1.74 -3.41,-0.8 ; -3.41,0.8 -3.41,1.74 ; -3.41,3.34 -3.41,4.28 ; -3.41,5.88 -3.41,7.19 3.41,7.19 3.41,5.88 ; 3.41,-4.28 3.41,-3.34 ; 3.41,-1.74 3.41,-0.8 ; 3.41,0.8 3.41,1.74 ; 3.41,3.34 3.41,4.28 ; -1.81,-5.715 -1.81,-4.445 ; -1.81,-5.715 -0.603,-5.715 ; -1.81,-5.715 -1.81,-4.445 ; -1.81,-5.715 1.81,-5.715 1.81,-4.445 -1.81,-4.445 ; -1.81,-4.445 -0.603,-4.445 ; -1.81,-3.175 -1.81,-1.905 ; -1.81,-3.175 -0.603,-3.175 ; -1.81,-3.175 -1.81,-1.905 ; -1.81,-3.175 1.81,-3.175 1.81,-1.905 -1.81,-1.905 ; -1.81,-1.905 -0.603,-1.905 ; -1.81,-0.635 -1.81,0.635 ; -1.81,-0.635 -0.603,-0.635 ; -1.81,-0.635 -1.81,0.635 ; -1.81,-0.635 1.81,-0.635 1.81,0.635 -1.81,0.635 ; -1.81,0.635 -0.603,0.635 ; -1.81,1.905 -1.81,3.175 ; -1.81,1.905 -0.603,1.905 ; -1.81,1.905 -1.81,3.175 ; -1.81,1.905 1.81,1.905 1.81,3.175 -1.81,3.175 ; -1.81,3.175 -0.603,3.175 ; -1.81,4.445 -1.81,5.715 ; -1.81,4.445 -0.603,4.445 ; -1.81,4.445 -1.81,5.715 ; -1.81,4.445 1.81,4.445 1.81,5.715 -1.81,5.715 ; -1.81,5.715 -0.603,5.715 ; -0.603,-5.715 -0.603,-4.445 ; -0.603,-5.715 -0.603,-4.445 ; -0.603,-3.175 -0.603,-1.905 ; -0.603,-3.175 -0.603,-1.905 ; -0.603,-0.635 -0.603,0.635 ; -0.603,-0.635 -0.603,0.635 ; -0.603,1.905 -0.603,3.175 ; -0.603,1.905 -0.603,3.175 ; -0.603,4.445 -0.603,5.715 ; -0.603,4.445 -0.603,5.715
Top Component Center:
  lines w0.127: -0.127,0 0.127,0 ; 0,-0.127 0,0.127
Top Assembly:
  lines w0.254: -1.81,-5.715 -1.81,-4.445 ; -1.81,-5.715 -0.603,-5.715 ; -1.81,-5.715 -1.81,-4.445 ; -1.81,-5.715 1.81,-5.715 1.81,-4.445 -1.81,-4.445 ; -1.81,-4.445 -0.603,-4.445 ; -1.81,-3.175 -1.81,-1.905 ; -1.81,-3.175 -0.603,-3.175 ; -1.81,-3.175 -1.81,-1.905 ; -1.81,-3.175 1.81,-3.175 1.81,-1.905 -1.81,-1.905 ; -1.81,-1.905 -0.603,-1.905 ; -1.81,-0.635 -1.81,0.635 ; -1.81,-0.635 -0.603,-0.635 ; -1.81,-0.635 -1.81,0.635 ; -1.81,-0.635 1.81,-0.635 1.81,0.635 -1.81,0.635 ; -1.81,0.635 -0.603,0.635 ; -1.81,1.905 -1.81,3.175 ; -1.81,1.905 -0.603,1.905 ; -1.81,1.905 -1.81,3.175 ; -1.81,1.905 1.81,1.905 1.81,3.175 -1.81,3.175 ; -1.81,3.175 -0.603,3.175 ; -1.81,4.445 -1.81,5.715 ; -1.81,4.445 -0.603,4.445 ; -1.81,4.445 -1.81,5.715 ; -1.81,4.445 1.81,4.445 1.81,5.715 -1.81,5.715 ; -1.81,5.715 -0.603,5.715 ; -0.603,-5.715 -0.603,-4.445 ; -0.603,-5.715 -0.603,-4.445 ; -0.603,-3.175 -0.603,-1.905 ; -0.603,-3.175 -0.603,-1.905 ; -0.603,-0.635 -0.603,0.635 ; -0.603,-0.635 -0.603,0.635 ; -0.603,1.905 -0.603,3.175 ; -0.603,1.905 -0.603,3.175 ; -0.603,4.445 -0.603,5.715 ; -0.603,4.445 -0.603,5.715 ; -3.35,-7.13 -3.35,6.13 -2.35,7.13 3.35,7.13 3.35,-7.13 -3.35,-7.13
  text "on" at -0.237,6.036 h0.8
Top Courtyard:
  lines w0.254: -5.78,-7.44 -5.78,7.44 5.78,7.44 5.78,-7.44 -5.78,-7.44
Top Designator:
  text ".Designator" at -3.432,0.925 h1.52
3D body "SW_DIP_SPSTx05_Slide_6.7x14.26mm_W8.61mm_P2.54mm_LowProfile.step": height 2.7, standoff 0, extent -4.305,-7.13 4.305,7.13

## SW_DIP_SPSTx05_Slide_9.78x14.88mm_W8.61mm_P2.54mm [mm] "SW_DIP_SPSTx05_Slide_9.78x14.88mm_W8.61mm_P2.54mm"
pads (10):
  rrect22% 2.44x1.12 smd: 1(-4.305,5.08) 2(-4.305,2.54) 3(-4.305,0) 4(-4.305,-2.54) 5(-4.305,-5.08) 6(4.305,-5.08) 7(4.305,-2.54) 8(4.305,0) 9(4.305,2.54) 10(4.305,5.08)
F.SilkS:
  lines w0.254: -5.19,6.357 -5.19,7.74 -3.807,7.74 ; -4.95,-5.88 -4.95,-7.5 4.95,-7.5 4.95,-5.88 ; -4.95,-4.28 -4.95,-3.34 ; -4.95,-1.74 -4.95,-0.8 ; -4.95,0.8 -4.95,1.74 ; -4.95,3.34 -4.95,4.28 ; -4.95,5.88 -4.95,7.5 4.95,7.5 4.95,5.88 ; 4.95,-4.28 4.95,-3.34 ; 4.95,-1.74 4.95,-0.8 ; 4.95,0.8 4.95,1.74 ; 4.95,3.34 4.95,4.28 ; -2.03,-5.715 -2.03,-4.445 ; -2.03,-5.715 -0.677,-5.715 ; -2.03,-5.715 -2.03,-4.445 ; -2.03,-5.715 2.03,-5.715 2.03,-4.445 -2.03,-4.445 ; -2.03,-4.445 -0.677,-4.445 ; -2.03,-3.175 -2.03,-1.905 ; -2.03,-3.175 -0.677,-3.175 ; -2.03,-3.175 -2.03,-1.905 ; -2.03,-3.175 2.03,-3.175 2.03,-1.905 -2.03,-1.905 ; -2.03,-1.905 -0.677,-1.905 ; -2.03,-0.635 -2.03,0.635 ; -2.03,-0.635 -0.677,-0.635 ; -2.03,-0.635 -2.03,0.635 ; -2.03,-0.635 2.03,-0.635 2.03,0.635 -2.03,0.635 ; -2.03,0.635 -0.677,0.635 ; -2.03,1.905 -2.03,3.175 ; -2.03,1.905 -0.677,1.905 ; -2.03,1.905 -2.03,3.175 ; -2.03,1.905 2.03,1.905 2.03,3.175 -2.03,3.175 ; -2.03,3.175 -0.677,3.175 ; -2.03,4.445 -2.03,5.715 ; -2.03,4.445 -0.677,4.445 ; -2.03,4.445 -2.03,5.715 ; -2.03,4.445 2.03,4.445 2.03,5.715 -2.03,5.715 ; -2.03,5.715 -0.677,5.715 ; -0.677,-5.715 -0.677,-4.445 ; -0.677,-5.715 -0.677,-4.445 ; -0.677,-3.175 -0.677,-1.905 ; -0.677,-3.175 -0.677,-1.905 ; -0.677,-0.635 -0.677,0.635 ; -0.677,-0.635 -0.677,0.635 ; -0.677,1.905 -0.677,3.175 ; -0.677,1.905 -0.677,3.175 ; -0.677,4.445 -0.677,5.715 ; -0.677,4.445 -0.677,5.715
Top Component Center:
  lines w0.127: -0.127,0 0.127,0 ; 0,-0.127 0,0.127
Top Assembly:
  lines w0.254: -2.03,-5.715 -2.03,-4.445 ; -2.03,-5.715 -0.677,-5.715 ; -2.03,-5.715 -2.03,-4.445 ; -2.03,-5.715 2.03,-5.715 2.03,-4.445 -2.03,-4.445 ; -2.03,-4.445 -0.677,-4.445 ; -2.03,-3.175 -2.03,-1.905 ; -2.03,-3.175 -0.677,-3.175 ; -2.03,-3.175 -2.03,-1.905 ; -2.03,-3.175 2.03,-3.175 2.03,-1.905 -2.03,-1.905 ; -2.03,-1.905 -0.677,-1.905 ; -2.03,-0.635 -2.03,0.635 ; -2.03,-0.635 -0.677,-0.635 ; -2.03,-0.635 -2.03,0.635 ; -2.03,-0.635 2.03,-0.635 2.03,0.635 -2.03,0.635 ; -2.03,0.635 -0.677,0.635 ; -2.03,1.905 -2.03,3.175 ; -2.03,1.905 -0.677,1.905 ; -2.03,1.905 -2.03,3.175 ; -2.03,1.905 2.03,1.905 2.03,3.175 -2.03,3.175 ; -2.03,3.175 -0.677,3.175 ; -2.03,4.445 -2.03,5.715 ; -2.03,4.445 -0.677,4.445 ; -2.03,4.445 -2.03,5.715 ; -2.03,4.445 2.03,4.445 2.03,5.715 -2.03,5.715 ; -2.03,5.715 -0.677,5.715 ; -0.677,-5.715 -0.677,-4.445 ; -0.677,-5.715 -0.677,-4.445 ; -0.677,-3.175 -0.677,-1.905 ; -0.677,-3.175 -0.677,-1.905 ; -0.677,-0.635 -0.677,0.635 ; -0.677,-0.635 -0.677,0.635 ; -0.677,1.905 -0.677,3.175 ; -0.677,1.905 -0.677,3.175 ; -0.677,4.445 -0.677,5.715 ; -0.677,4.445 -0.677,5.715 ; -4.89,-7.44 -4.89,6.44 -3.89,7.44 4.89,7.44 4.89,-7.44 -4.89,-7.44
  text "on" at 0.643,6.191 h0.8
Top Courtyard:
  lines w0.254: -5.78,-7.75 -5.78,7.75 5.78,7.75 5.78,-7.75 -5.78,-7.75
Top Designator:
  text ".Designator" at -3.432,0.925 h1.52
3D body "SW_DIP_SPSTx05_Slide_9.78x14.88mm_W8.61mm_P2.54mm.step": height 8.6, standoff 0, extent -5.2,-7.44 5.2,7.44

## SW_DIP_SPSTx05_Slide_KingTek_DSHP05TJ_W5.25mm_P1.27mm_JPin [mm] "SW_DIP_SPSTx05_Slide_KingTek_DSHP05TJ_W5.25mm_P1.27mm_JPin"
pads (10):
  rrect25% 2.65x0.76 smd: 1(-2.625,2.54) 2(-2.625,1.27) 3(-2.625,0) 4(-2.625,-1.27) 5(-2.625,-2.54) 6(2.625,-2.54) 7(2.625,-1.27) 8(2.625,0) 9(2.625,1.27) 10(2.625,2.54)
F.SilkS:
  lines w0.254: -3.95,3.22 -2.76,3.22 -2.76,4.135 2.76,4.135 2.76,3.16 ; -2.76,-3.16 -2.76,-4.135 2.76,-4.135 2.76,-3.16
Top Component Center:
  lines w0.127: -0.127,0 0.127,0 ; 0,-0.127 0,0.127
Top Assembly:
  lines w0.254: -1,-2.94 -1,-2.14 ; -1,-2.94 -0.333,-2.94 ; -1,-2.94 -1,-2.14 ; -1,-2.94 1,-2.94 1,-2.14 -1,-2.14 ; -1,-2.14 -0.333,-2.14 ; -1,-1.67 -1,-0.87 ; -1,-1.67 -0.333,-1.67 ; -1,-1.67 -1,-0.87 ; -1,-1.67 1,-1.67 1,-0.87 -1,-0.87 ; -1,-0.87 -0.333,-0.87 ; -1,-0.4 -1,0.4 ; -1,-0.4 -0.333,-0.4 ; -1,-0.4 -1,0.4 ; -1,-0.4 1,-0.4 1,0.4 -1,0.4 ; -1,0.4 -0.333,0.4 ; -1,0.87 -1,1.67 ; -1,0.87 -0.333,0.87 ; -1,0.87 -1,1.67 ; -1,0.87 1,0.87 1,1.67 -1,1.67 ; -1,1.67 -0.333,1.67 ; -1,2.14 -1,2.94 ; -1,2.14 -0.333,2.14 ; -1,2.14 -1,2.94 ; -1,2.14 1,2.14 1,2.94 -1,2.94 ; -1,2.94 -0.333,2.94 ; -0.333,-2.94 -0.333,-2.14 ; -0.333,-2.94 -0.333,-2.14 ; -0.333,-1.67 -0.333,-0.87 ; -0.333,-1.67 -0.333,-0.87 ; -0.333,-0.4 -0.333,0.4 ; -0.333,-0.4 -0.333,0.4 ; -0.333,0.87 -0.333,1.67 ; -0.333,0.87 -0.333,1.67 ; -0.333,2.14 -0.333,2.94 ; -0.333,2.14 -0.333,2.94 ; -2.7,-4.075 -2.7,3.075 -1.7,4.075 2.7,4.075 2.7,-4.075 -2.7,-4.075
  text "on" at -0.127,3.121 h0.8
Top Courtyard:
  lines w0.254: -4.2,-4.39 -4.2,4.39 4.2,4.39 4.2,-4.39 -4.2,-4.39
Top Designator:
  text ".Designator" at 0.345,-3.432 h1.52
3D body "SW_DIP_SPSTx05_Slide_KingTek_DSHP05TJ_W5.25mm_P1.27mm_JPin.step": height 2.4, standoff -0.05, extent -3.975,-2.8 3.975,2.8
3D body "SW_DIP_SPSTx05_Slide_KingTek_DSHP05TJ_W5.25mm_P1.27mm_JPin.step": height 2.4, standoff -0.05, extent -3.975,-2.8 3.975,2.8